# Altium schematic symbol library MP3_player.SCHLIB: 21 symbols
Pins are listed as number, name and electrical type; pins without a type are passive.

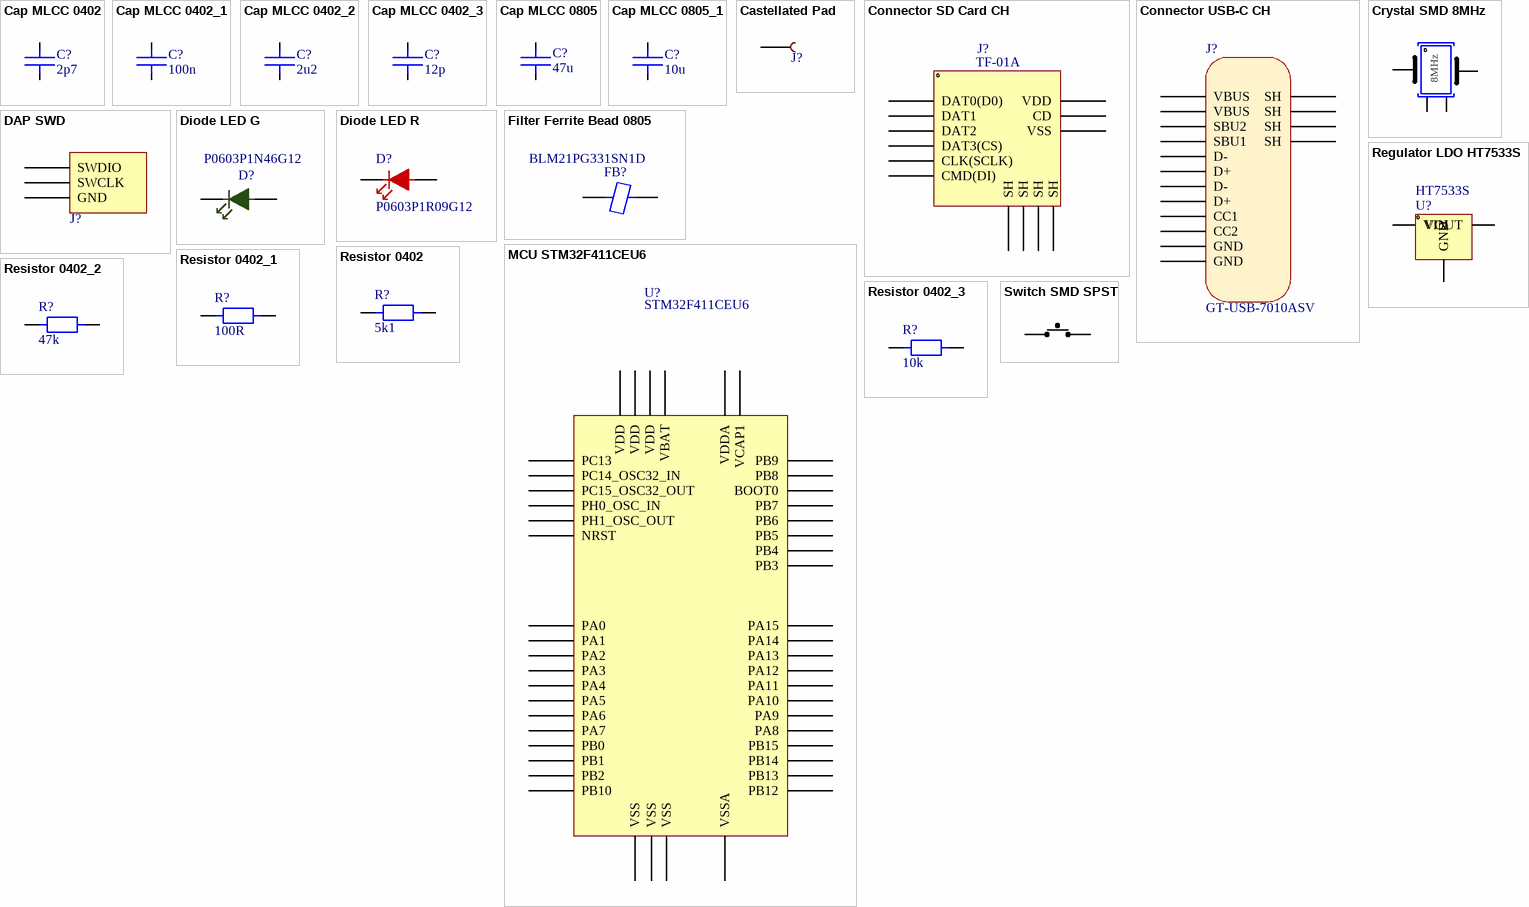
[diagram p0: symbols Cap MLCC 0402 to Switch SMD SPST]

## Cap MLCC 0402
designator C?, comment 2p7
Multilayer  Ceramic Capacitor; Manufacturer 1: *; Manufacturer Part Number 1: *; Quantity: *
footprint CAP_MLCC_0402 (MLCC Capacitor 0402 SMD)
pins: 1, 2

## Cap MLCC 0402_1
designator C?, comment 100n
Multilayer  Ceramic Capacitor; Designator: C?; Manufacturer 1: *; Manufacturer Part Number 1: *; Quantity: *
footprint CAP_MLCC_0402 (MLCC Capacitor 0402 SMD)
pins: 1, 2

## Cap MLCC 0402_2
designator C?, comment 2u2
Multilayer  Ceramic Capacitor; Designator: C?; Manufacturer 1: *; Manufacturer Part Number 1: *; Quantity: *
footprint CAP_MLCC_0402 (MLCC Capacitor 0402 SMD)
pins: 1, 2

## Cap MLCC 0402_3
designator C?, comment 12p
Multilayer  Ceramic Capacitor; Designator: C?; Manufacturer 1: *; Manufacturer Part Number 1: *; Quantity: *
footprint CAP_MLCC_0402 (MLCC Capacitor 0402 SMD)
pins: 1, 2

## Cap MLCC 0805
designator C?, comment 47u
Multilayer  Ceramic Capacitor
footprint CAP_MLCC_0805
pins: 1, 2

## Cap MLCC 0805_1
designator C?, comment 10u
Multilayer  Ceramic Capacitor
footprint CAP_MLCC_0805
pins: 1, 2

## Castellated Pad
designator J?  (value not drawn)
footprint CPad
pins: 1

## Connector SD Card CH
designator J?, comment TF-01A
Push-Push 1.85mm Connector and Ejector MicroSD Card (TF Card) SMD PC Card Sockets ROHS; Manufacturer 1: Korean Hroparts Elec; Manufacturer Part Number 1: TF-01A; Quantity: *; ComponentLink1Description: Datasheet; ComponentLink1URL: https://www.lcsc.com/datasheet/C91145.pdf; ComponentLink2Description: Product Link; ComponentLink2URL: https://www.lcsc.com/product-detail/C91145.html
footprint CONN_CH_SMD_SD_CARD
pins: 1 DAT2, 2 DAT3(CS), 3 CMD(DI), 4 VDD, 5 CLK(SCLK), 6 VSS, 7 DAT0(D0), 8 DAT1, 9 CD, 10 SH, 11 SH, 12 SH, 13 SH

## Connector USB-C CH
designator J?, comment GT-USB-7010ASV
USB 2.0 1 16P -40℃~+85℃ Type-C SMD USB, DVI, HDMI Connector Assemblies ROHS; Manufacturer 1: G-Switch; Manufacturer Part Number 1: GT-USB-7010ASV; Quantity: *; ComponentLink1Description: Datasheet; ComponentLink1URL: https://atta.szlcsc.com/upload/public/pdf/source/20230327/DF227B64686AC8FA0AD1775797F2C3F1.pdf; ComponentLink2Description: Product Link; ComponentLink2URL: https://www.lcsc.com/product-detail/C2988369.html
footprint CONN_CH_USB_SMD_USB
pins: 1 VBUS, 2 VBUS, 3 SBU2, 4 CC1, 5 D-, 6 D+, 7 D-, 8 D+, 9 SBU1, 10 CC2, 11 GND, 12 GND, 13 SH, 14 SH, 15 SH, 16 SH

## Crystal SMD 8MHz
designator X?, comment XC32M4-8.000-F12LJDT  (value not drawn)
Crystal Oscillator 12pF SMD3225-4P Crystals RoHS; Manufacturer 1: HCI; Designator: X?; Manufacturer Part Number 1: XC32M4-8.000-F12LJDT; Quantity: *; ComponentLink1Description: Datasheet; ComponentLink1URL: https://www.lcsc.com/datasheet/C2842191.pdf; ComponentLink2Description: Product Link; ComponentLink2URL: https://www.lcsc.com/product-detail/C2842191.html
footprint XTAL_SMD_HCL
pins: 1, 2, 3, 4
text: 8MHz

## DAP SWD
designator J?  (value not drawn)
Connector Header 3 position 1mm Pitch 1A Surface Mount,Vertical -25℃~+85℃; Manufacturer 1: JST; Manufacturer Part Number 1: BM03B-SRSS-TB(LF)(SN); Designator: J?; Quantity: *; ComponentLink1Description: Datasheet; ComponentLink1URL: https://www.lcsc.com/datasheet/C160389.pdf; ComponentLink2Description: Product Link; ComponentLink2URL: https://www.lcsc.com/product-detail/C160389.html
footprint CONN_JST_3P
pins: 1 SWDIO, 2 SWCLK, 3 GND

## Diode LED G
designator D?, comment P0603P1N46G12
1200mcd 518nm~524nm Green 3V 0603 LED Indication - Discrete ROHS; Manufacturer 1: Silverlight; Designator: D?; Manufacturer Part Number 1: P0603P1N46G12; Quantity: *; ComponentLink1Description: Datasheet; ComponentLink1URL: https://www.lcsc.com/datasheet/C5123548.pdf; ComponentLink2Description: Product Link; ComponentLink2URL: https://www.lcsc.com/product-detail/C5123548.html
footprint LED_0603
pins: 1, 2

## Diode LED R
designator D?, comment P0603P1R09G12
20mA 350mcd 621nm Red 2V 0603 LED Indication - Discrete ROHS; Manufacturer 1: Silverlight; Manufacturer Part Number 1: P0603P1R09G12; Quantity: *; ComponentLink1Description: Product Link; ComponentLink1URL: https://www.lcsc.com/product-detail/C5123549.html; ComponentLink2Description: Datasheet; ComponentLink2URL: https://www.lcsc.com/datasheet/C5123549.pdf
footprint LED_0603
pins: 1, 2

## Filter Ferrite Bead 0805
designator FB?, comment BLM21PG331SN1D
70mΩ ±25% 330Ω@100MHz 0805 Ferrite Beads and Chips RoHS; Manufacturer 1: muRata; Manufacturer Part Number 1: BLM21PG331SN1D; Quantity: *
footprint FBEAD_0805
pins: 1, 2

## MCU STM32F411CEU6
designator U?, comment STM32F411CEU6
ARM Cortex-M4 32 Bit 100MHz 36 UFQFPN-48(7x7) Microcontrollers RoHS; Manufacturer 1: ST; Manufacturer Part Number 1: STM32F411CEU6; Quantity: *; ComponentLink1Description: Datasheet; ComponentLink1URL: https://www.lcsc.com/datasheet/C60420.pdf; ComponentLink2Description: Product Link; ComponentLink2URL: https://www.lcsc.com/product-detail/C60420.html
footprint STM32F411CEU6_QFPN48
pins: 1 VBAT, 2 PC13, 3 PC14_OSC32_IN, 4 PC15_OSC32_OUT, 5 PH0_OSC_IN, 6 PH1_OSC_OUT, 7 NRST, 8 VSSA, 9 VDDA, 10 PA0, 11 PA1, 12 PA2, 13 PA3, 14 PA4, 15 PA5, 16 PA6, 17 PA7, 18 PB0, 19 PB1, 20 PB2, 21 PB10, 22 VCAP1, 23 VSS, 24 VDD, 25 PB12, 26 PB13, 27 PB14, 28 PB15, 29 PA8, 30 PA9, 31 PA10, 32 PA11, 33 PA12, 34 PA13, 35 VSS, 36 VDD, 37 PA14, 38 PA15, 39 PB3, 40 PB4, 41 PB5, 42 PB6, 43 PB7, 44 BOOT0, 45 PB8, 46 PB9, 47 VSS, 48 VDD

## Regulator LDO HT7533S
designator U?, comment HT7533S
Linear Voltage Regulator IC Positive Fixed 1 Output 100mA SOT-23; Manufacturer 1: UMW; Manufacturer Part Number 1: HT7533S; ComponentLink1Description: Product Link; ComponentLink1URL: https://www.lcsc.com/product-detail/C347215.html; ComponentLink2Description: Datasheet; ComponentLink2URL: https://www.lcsc.com/datasheet/C347215.pdf
footprint HT7533S_SOT23 (SOT23, 3-Leads, Body 2.90x2.40mm, Pitch 0.95mm, IPC Medium Density)
pins: 1 GND, 2 VIN, 3 VOUT

## Resistor 0402
designator R?, comment 5k1
General Purpose SMD Carbon Resistor; Manufacturer 1: *; Manufacturer Part Number 1: *; Quantity: *
footprint RES_SMD_0402 (Carbon Resistor SMD 0402)
pins: 1, 2

## Resistor 0402_1
designator R?, comment 100R
General Purpose SMD Carbon Resistor; Manufacturer 1: *; Manufacturer Part Number 1: *; Quantity: *
footprint RES_SMD_0402 (Carbon Resistor SMD 0402)
pins: 1, 2

## Resistor 0402_2
designator R?, comment 47k
General Purpose SMD Carbon Resistor; Designator: R?; Manufacturer 1: *; Manufacturer Part Number 1: *; Quantity: *
footprint RES_SMD_0402 (Carbon Resistor SMD 0402)
pins: 1, 2

## Resistor 0402_3
designator R?, comment 10k
General Purpose SMD Carbon Resistor; Designator: R?; Manufacturer 1: *; Manufacturer Part Number 1: *; Quantity: *
footprint RES_SMD_0402 (Carbon Resistor SMD 0402)
pins: 1, 2

## Switch SMD SPST
designator SW?, comment TS-1088-AR02016  (value not drawn)
Without Bracket 4mm 12V 3mm Round Button SPST 50mA SMD,4x3mm Tactile Switches ROHS; Manufacturer 1: XUNPU; Designator: SW?; Manufacturer Part Number 1: TS-1088-AR02016; Quantity: *; ComponentLink1Description: Datasheet; ComponentLink1URL: https://item.szlcsc.com/datasheet/TS-1088-AR02016/763484.html?lcsc_vid=T1EMVlBfE1BXVVADFQQNUlMFT1RXUAZeFlhfBlAAQVExVlNQR1lZUlJWR1BfVTsOAxUeFF5JWBEcCEoDFhIXAgAHWQIBCks%3D; ComponentLink2Description: Product Link; ComponentLink2URL: https://www.lcsc.com/product-detail/C720477.html
footprint SW_SMD_SPST
pins: 1, 2